# Altium footprint library Synthiam.PcbLib: 481 footprints (part 27 of 31)
Each footprint in its own frame and in the unit in brackets; x right, y up, seen from the top. Pads: shape width x height; smd on the part's side, far side on the other; paste and mask are expansions set on the pad; w line width, h text height; cw(c..) or ccw(c..) is an arc to the next point about the centre after c.
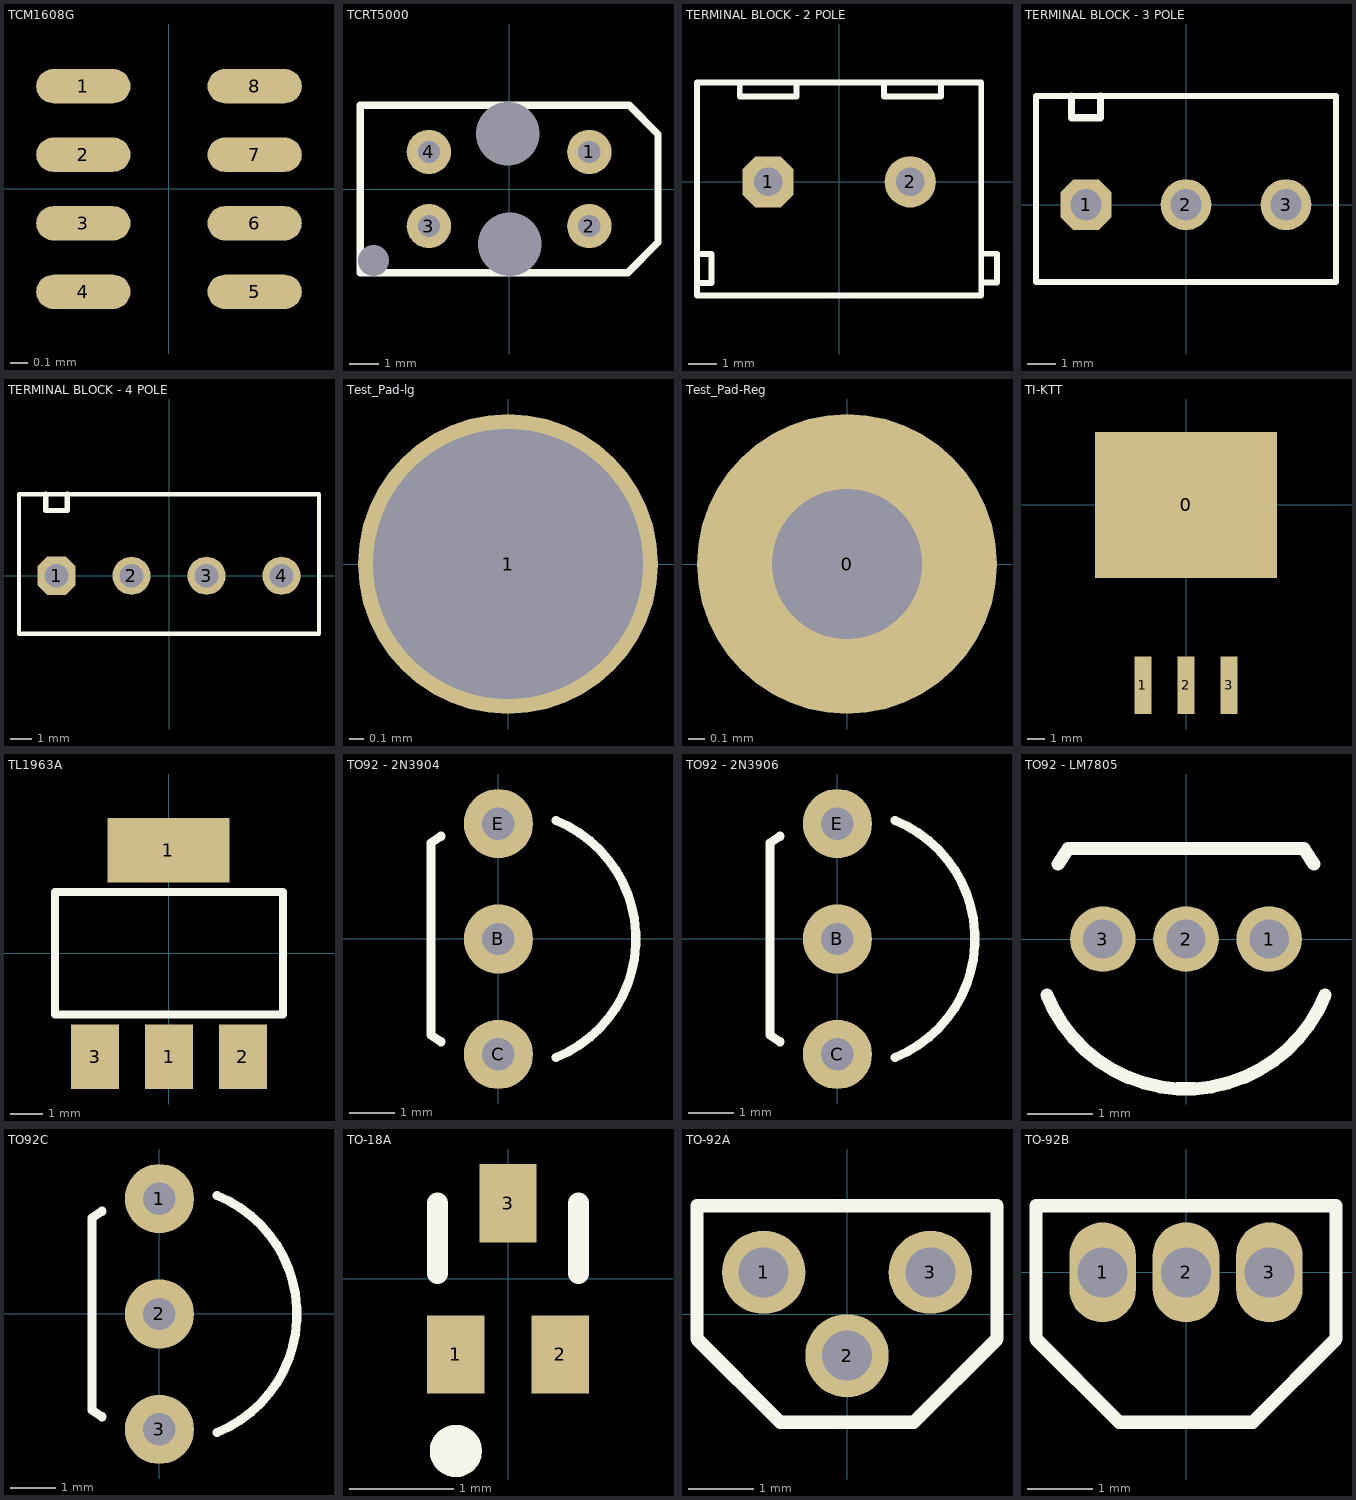
[diagram p26: the footprints below, top view; thin cyan lines are the x and y axes]

## TCM1608G [mm]
pads (8):
  oval 0.55x0.2 smd: 1(-0.5,0.6) 2(-0.5,0.2) 3(-0.5,-0.2) 4(-0.5,-0.6) 5(0.5,-0.6) 6(0.5,-0.2) 7(0.5,0.2) 8(0.5,0.6)

## TCRT5000 [mil]
pads (7):
  round 0 hole 42 unplated: 0(-183.07,-96.46)
  round 0 hole 86 unplated: 0(-2,74.8) 0(1,-74.8)
  round 60 hole 30: 1(108.27,50) 2(108.27,-50) 3(-108.27,-50) 4(-108.27,50)
Top Overlay:
  lines w10: -201,-113 160,-113 201,-72 201,74 162,113 -201,113 -201,-113

## TERMINAL BLOCK - 2 POLE [mm]
pads (2):
  oct 1.8x1.8 hole 1: 1(-2.5,0)
  round 1.8 hole 1: 2(2.5,0)
Top Overlay:
  lines w0.203: -5,-3.556 -4.492,-3.556 -4.492,-2.54 -5,-2.54 ; -3.5,3.5 -3.5,3 -1.5,3 -1.5,3.5 ; 1.58,3.5 1.58,3 3.58,3 3.58,3.5 ; 5.044,-3.541 5.552,-3.541 5.552,-2.525 5.044,-2.525 ; -5,-4 -5,3.5 5,3.5 5,-4 -5,-4

## TERMINAL BLOCK - 3 POLE [mil]
pads (3):
  oct 70x70 hole 43.31: 1(-137.8,0)
  round 70 hole 43.31: 2(0,0) 3(137.8,0)
Top Overlay:
  lines w8: -206.69,-106.3 -206.69,149.61 206.69,149.61 206.69,-106.3 -206.69,-106.3
  lines w10: -157.8,149.61 -157.8,120 -117.8,120 -117.8,149.61

## TERMINAL BLOCK - 4 POLE [mil]
pads (4):
  oct 70x70 hole 43.31: 1(-206.69,0)
  round 70 hole 43.31: 2(-68.9,0) 3(68.9,0) 4(206.69,0)
Top Overlay:
  lines w8: -275.59,-106.3 -275.59,149.61 275.59,149.61 275.59,-106.3 -275.59,-106.3
  lines w10: -226.69,149.61 -226.69,120 -186.69,120 -186.69,149.61

## Test_Pad-lg [mil] "80mil pad, 72mil hole"
pads (1):
  round 80 hole 72: 1(0,0)

## Test_Pad-Reg [mil] "70mil dia; 35mil hole"
pads (1):
  round 70 hole 35: 0(0,0)

## TI-KTT [mm] "Texas Insruments KTT package for TLV1117IKVURG3 VReg"
pads (4):
  rect 10.7x8.6 smd: 0(0,0)
  rect 1x3.4 smd: 1(-2.54,-10.62) 2(0.01,-10.62) 3(2.54,-10.62)
3D body: height 4.3, standoff 0, extent -5.452,-5 5.452,3
3D body: height 1.4, standoff 0, extent -5.5,3 5.5,4.402
3D body: height 0.58, standoff 0, extent -3.1,-12.3 -2.1,-5
3D body: height 0.58, standoff 0, extent -0.5,-12.3 0.5,-5
3D body: height 0.58, standoff 0, extent 2,-12.3 3,-5

## TL1963A [mil]
pads (4):
  rect 150x79 smd: 1(-0.67,126.77)
  rect 59x79 smd: 1(0,-126.77) 2(90.55,-126.77) 3(-90.55,-126.77)
Top Overlay:
  lines w10: -140,-74.77 -140,75.23 140,75.23 140,-74.77 -140,-74.77

## TO92 - 2N3904 [mil]
pads (3):
  round 60 hole 28: B(0,0) C(0,-100) E(0,100)
Top Overlay:
  lines w7.87: -49.71,-89.08 -58.33,-83.33 -58.33,83.33 -49.71,89.08 ; 49.85,-102.76 ccw(c8.33,0) 49.85,102.76

## TO92 - 2N3906 [mil]
pads (3):
  round 60 hole 28: B(0,0) C(0,-100) E(0,100)
Top Overlay:
  lines w7.87: -49.71,-89.08 -58.33,-83.33 -58.33,83.33 -49.71,89.08 ; 49.85,-102.76 ccw(c8.33,0) 49.85,102.76

## TO92 - LM7805 [mm]
pads (3):
  round 1 hole 0.6: 1(1.27,0) 2(0,0) 3(-1.27,0)
Top Overlay:
  lines w0.2: -2.123,-0.858 ccw(c0,0) 2.123,-0.858 ; -1.956,1.143 -1.81,1.362 ; -1.8,1.38 1.8,1.38 ; 1.81,1.362 1.956,1.143

## TO92C [mil]
pads (3):
  round 60 hole 28: 1(0,100) 2(0,0) 3(0,-100)
Top Overlay:
  lines w7.87: -49.71,-89.08 -58.33,-83.33 -58.33,83.33 -49.71,89.08 ; 49.85,-102.76 ccw(c8.33,0) 49.85,102.76

## TO-18A [mm] "SC-89; 3 Flat Leads; Body 1.6 x 1.6 x 0.7 mm, inc leads (LxWxH typ)"
height 0.8
pads (3):
  rect 0.55x0.75 smd: 1(-0.5,-0.725) 2(0.5,-0.725) 3(0,0.725)
Top Overlay:
  circle w0.25: c-0.5,-1.65 r0.125
  lines w0.2: -0.676,0.05 -0.676,0.725 ; 0.675,0.05 0.675,0.725

## TO-92A [mil]
pads (3):
  round 50 hole 30: 1(-50,25) 2(0,-25) 3(50,25)
Top Overlay:
  lines w8: -90,-15 -40,-65 40,-65 90,-15 90,65 -90,65 -90,-15

## TO-92B [mil]
pads (3):
  oval 40x60 hole 30: 1(-50,0) 2(0,0) 3(50,0)
Top Overlay:
  lines w8: -90,-40 -40,-90 40,-90 90,-40 90,40 -90,40 -90,-40